# Altium schematic symbol library ILI9341.SchLib: 1 symbol
Pins are listed as number, name and electrical type; pins without a type are passive.

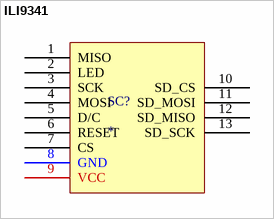
[diagram p0: symbol ILI9341]

## ILI9341
designator SC?
footprint ILI9341
pins: 1 MISO, 2 LED, 3 SCK, 4 MOSI, 5 D/C, 6 RESET, 7 CS, 8 GND (power), 9 VCC (power), 10 SD_CS, 11 SD_MOSI, 12 SD_MISO, 13 SD_SCK